# Altium footprint library Library Led Yazaki.PcbLib: 35 footprints (part 1 of 3)
Each footprint in its own frame and in the unit in brackets; x right, y up, seen from the top. Pads: shape width x height; smd on the part's side, far side on the other; paste and mask are expansions set on the pad; w line width, h text height; cw(c..) or ccw(c..) is an arc to the next point about the centre after c.
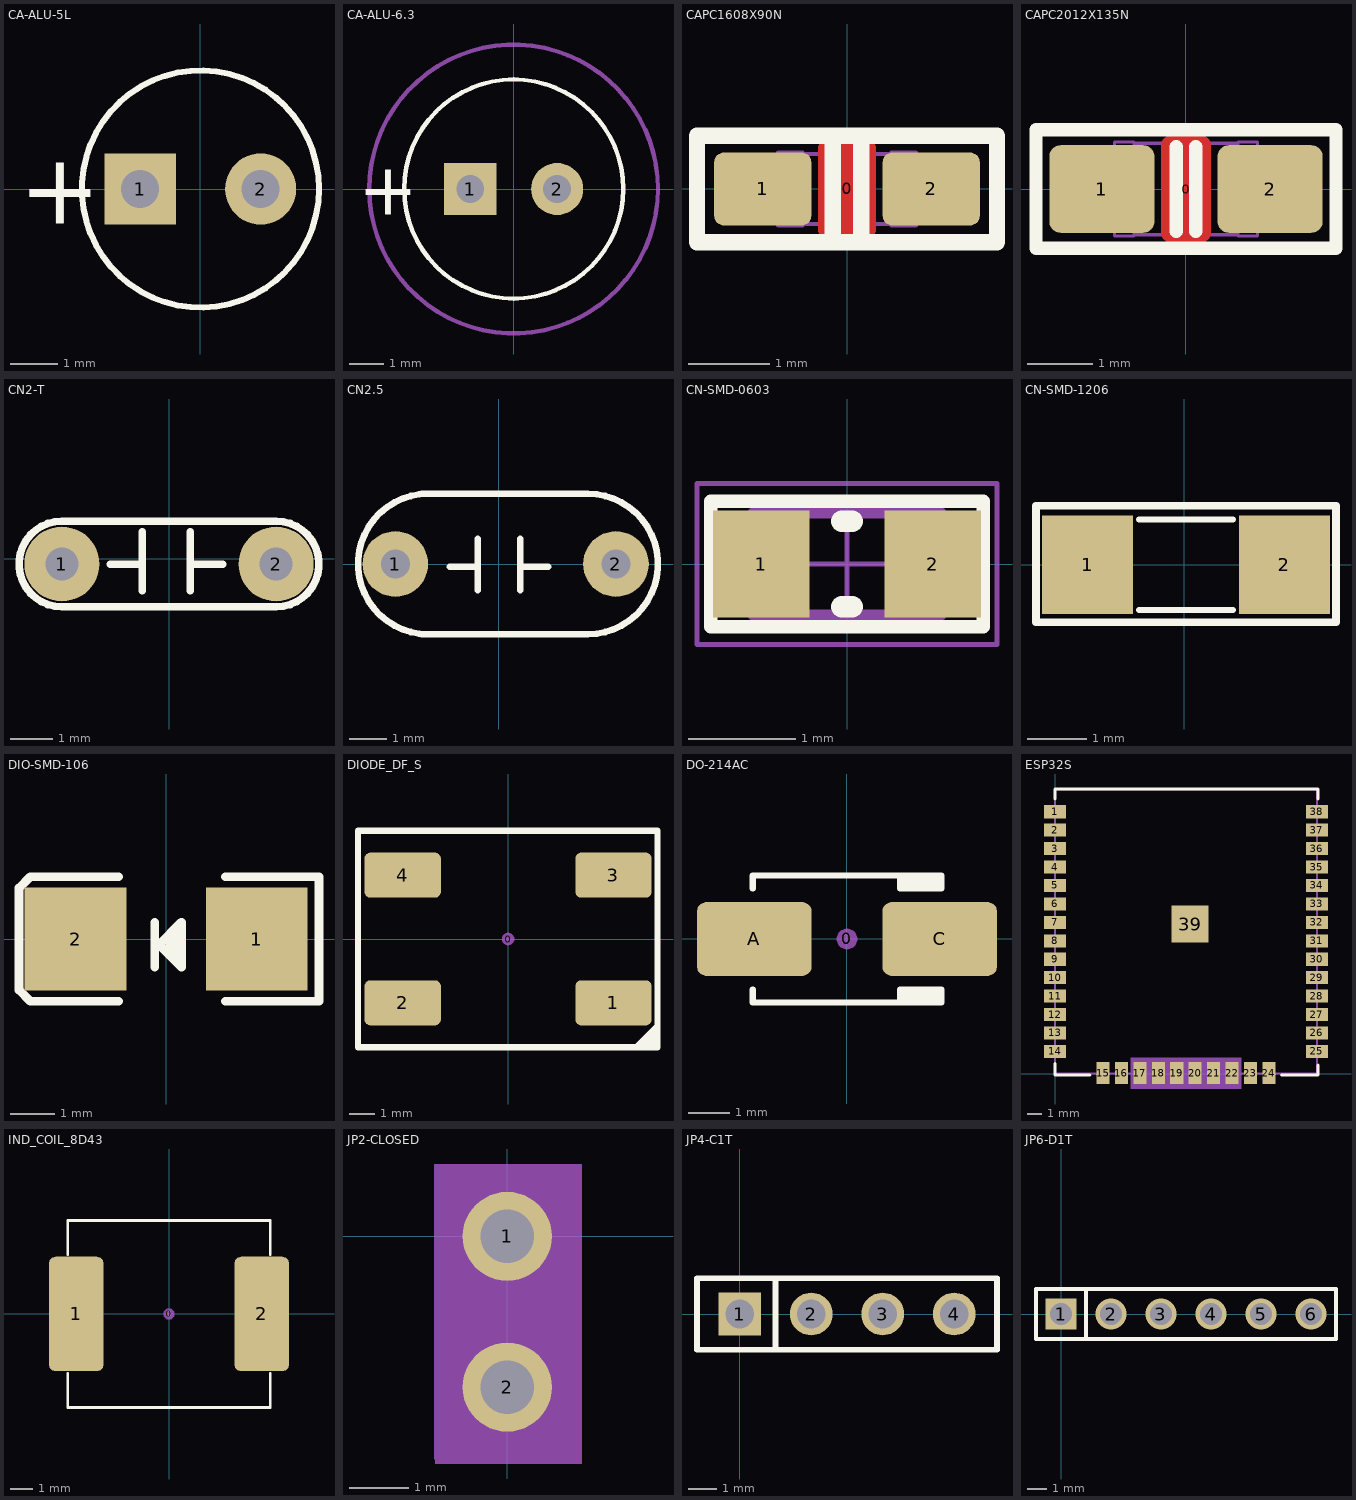
[diagram p0: the footprints below, top view; thin cyan lines are the x and y axes]

## CA-ALU-5L [mm] "Polarized capacitors, Aluminum Electrolytic Capacitors, 2-Leads, Body 5x11x2x0.5"
height 11
pads (2):
  rect 1.5x1.5 hole 0.8: 1(-1.27,0)
  round 1.5 hole 0.8: 2(1.27,0)
Top Overlay:
  circle w0.127: c0,0 r2.5
  text "+" at -3.825,-0.737 h1.5
3D body "5x12.step": height 13.9, standoff -1.2, extent -2.54,-2.54 2.54,2.54

## CA-ALU-6.3 [mm] "Polarized capacitors, Aluminum Electrolytic Capacitors, 2-Leads, Body 6.3x15x2.5x0.5"
height 15
pads (2):
  rect 1.5x1.5 hole 0.8: 1(-1.25,0)
  round 1.5 hole 0.8: 2(1.25,0)
Top Overlay:
  circle w0.127: c0,0 r3.15
  text "+" at -4.475,-0.737 h1.5
Mechanical 15:
  circle w0.127: c0,0 r4.15
3D body "User Library-Cap 6_3x11.STEP": height 11, standoff -19, extent -3.125,-3.15 3.175,3.15

## CAPC1608X90N [mm]
height 8.5
pads (3):
  round 0.254 on Mech15: 0(0,0)
  rrect25% 1.2x0.9 smd: 1(-1.041,0) 2(1.041,0)
Top Layer:
  pour cut-out: -0.356,0.508 -0.356,0.523 -0.344,0.551 -0.323,0.573 -0.295,0.584 -0.279,0.584 0.279,0.584 0.295,0.584 0.323,0.573 0.344,0.551 0.356,0.523 0.356,0.508 0.356,-0.508 0.356,-0.523 0.344,-0.551 0.323,-0.573 0.295,-0.584 0.279,-0.584 -0.279,-0.584 -0.295,-0.584 -0.323,-0.573 -0.344,-0.551 -0.356,-0.523 -0.356,-0.508
Top Overlay:
  lines w0.203: -0.178,-0.66 -0.178,0.66 ; 0.178,-0.66 0.178,0.66 ; -1.854,-0.66 -1.854,0.66 1.854,0.66 1.854,-0.66 -1.854,-0.66
Mechanical 3:
  lines w0.05: -0.55,-0.43 0.55,-0.43 ; -0.55,0.43 0.55,0.43 ; -0.85,-0.45 -0.85,0.45 -0.55,0.45 -0.55,-0.45 -0.85,-0.45 ; 0.55,-0.45 0.85,-0.45 0.85,0.45 0.55,0.45 0.55,-0.45
3D body "User Library-CapCeramic_Kemet_0603_1608.STEP": height 0.79, standoff -0.01, extent -0.8,-0.4 0.8,0.4

## CAPC2012X135N [mm]
height 8.5
pads (3):
  round 0.254 on Mech15: 0(0,0)
  rrect25% 1.62x1.35 smd: 1(-1.295,0) 2(1.295,0)
Top Layer:
  pour cut-out: -0.381,0.686 -0.381,0.711 -0.362,0.758 -0.326,0.793 -0.279,0.813 -0.254,0.813 0.254,0.813 0.279,0.813 0.326,0.793 0.362,0.758 0.381,0.711 0.381,0.686 0.381,-0.686 0.381,-0.711 0.362,-0.758 0.326,-0.793 0.279,-0.813 0.254,-0.813 -0.254,-0.813 -0.279,-0.813 -0.326,-0.793 -0.362,-0.758 -0.381,-0.711 -0.381,-0.686
Top Overlay:
  lines w0.203: -0.15,-0.651 -0.15,0.651 ; 0.15,-0.651 0.15,0.651 ; -2.311,-0.914 -2.311,0.914 2.311,0.914 2.311,-0.914 -2.311,-0.914
Mechanical 3:
  lines w0.05: -0.8,-0.705 0.8,-0.705 ; -0.8,0.705 0.8,0.705 ; -1.1,-0.725 -1.1,0.725 -0.8,0.725 -0.8,-0.725 -1.1,-0.725 ; 0.8,-0.725 0.8,0.725 1.1,0.725 1.1,-0.725 0.8,-0.725
3D body "User Library-CapCeramic_Kemet_0805_2012.STEP": height 0.89, standoff -0.01, extent -1,-0.625 1,0.625

## CN2-T [mil]
height 200
pads (2):
  round 70 hole 31: 1(-100,-5) 2(100,-5)
Top Overlay:
  lines w7: -55,-5 -25,-5 ; -25,-30 -25,25 ; 20,-30 20,25 ; 20,-5 50,-5 ; -100,-45 cw(c-100,-5) -100,35 100,35 cw(c100,-5) 100,-45 -100,-45
3D body "User Library-Disc_CAP d6x3_5_5mm.step": height 318.88, standoff -79.53, extent -118.11,-47.68 118.11,35

## CN2.5 [mil] "Tu pin to pin 250mil"
height 200
pads (2):
  round 70 hole 31: 1(-110,0) 2(125,0)
Top Overlay:
  lines w7: -82,-75 95,-75 ; -82,75 95,75 ; -75,-74.8 cw(c-75,0) -75,74.8 ; -52,-3 -22,-3 ; -22,-28 -22,27 ; 23,-28 23,27 ; 23,-3 53,-3 ; 95,-74.8 ccw(c95,0) 95,74.8
3D body "User Library-Film Capacitor 6x8mm.step": height 538.88, standoff -130.41, extent -152.48,-80 162.48,77.48

## CN-SMD-0603 [mm]
height 8.5
pads (2):
  rect 0.9x1 smd: 1(-0.8,0) 2(0.8,0)
Top Overlay:
  lines w0.127: -1.27,-0.584 -1.27,0.584 1.27,0.584 1.27,-0.584 -1.27,-0.584
  lines w0.2: -0.05,-0.4 0.05,-0.4 ; -0.05,0.4 0.05,0.4
Mechanical 13:
  lines w0.1: -0.875,-0.475 -0.875,0.475 0.875,0.475 0.875,-0.475 -0.875,-0.475
Mechanical 15:
  lines w0.05: -0.475,0 0.475,0 ; 0,-0.475 0,0.475 ; -1.397,-0.75 -1.397,0.75 1.397,0.75 1.397,-0.75 -1.397,-0.75
3D body "User Library-0603 SMD Capacitor.step": height 0.3, standoff 0, extent -0.8,-0.4 0.8,0.4

## CN-SMD-1206 [mil]
height 334.65
pads (2):
  rect 60x65 smd: 1(-64,0) 2(66,0)
Top Overlay:
  lines w4: -30,-30 32,-30 ; -30,30 32,30
  lines w5: -98,-38 100,-38 100,39 -98,39 -98,-38
3D body "1206 SMD Capacitor.step": height 40.05, standoff 0.6, extent -62.98,-31.49 63,31.51

## DIO-SMD-106 [mil]
height 334.65
pads (2):
  rect 90x90.55 smd: 1(80,0) 2(-80,0)
Top Overlay:
  lines w7.87: -42.24,-55 -120,-55 -130,-45 -130,45 -120,55 -42.24,55 ; -10.12,-24.68 -10.12,14.69 ; 3.66,-10.91 3.66,0.91 ; 9.57,-16.81 9.57,6.81 ; 52.24,-55 135,-55 135,55 52.24,55 ; -6.18,-5 13.5,-24.68 13.5,14.69 -6.18,-5
Mechanical 1:
  lines w3.94: -2.87,0 12.87,0 ; 5,-7.87 5,7.87
3D body "User Library-DO-214Aa SMA.step": height 94.69, standoff 0, extent -98.7,-50.27 106.03,52.09

## DIODE_DF_S [mm]
height 8.5
pads (5):
  round 0.508 on Mech15: 0(0,0)
  rrect25% 3.048x1.8 smd: 1(4.209,-2.55) 2(-4.209,-2.55) 3(4.209,2.55) 4(-4.209,2.55)
Top Overlay:
  region: 5.986,-4.31 5.986,-3.31 4.986,-4.31
  lines w0.254: -5.994,-4.318 5.969,-4.318 5.969,4.318 -5.994,4.318 -5.994,-4.318
3D body "User Library-DF02S.STEP": height 2.71, standoff 0, extent -4.7,-4.065 4.7,4.065

## DO-214AC [mil]
height 334.65
pads (3):
  round 20 on Mech15: 0(0,0)
  rrect25% 110x70.87 smd mask+0: A(-89,0)
  rrect25% 110x70.87 smd mask-2: C(89,0)
Top Overlay:
  rectangle: 51.18,48.43 90.55,61
  rectangle: 51.18,-61 90.55,-48.43
  lines w6: -90.55,-48.43 -90.55,-61 90.55,-61 90.55,-48.43 51.18,-48.43 51.18,-61 ; -90.55,48.43 -90.55,61 90.55,61 90.55,48.43 51.18,48.43 ; 51.18,48.87 51.18,61
3D body "User Library-DIOM5528X26.STEP": height 102.36, standoff 1.02, extent -108.26,-55.11 108.27,55.12

## ESP32S [mm]
height 8.5
pads (39):
  rect 1.5x0.9 smd: 1(0,18.034) 2(0,16.764) 3(0,15.494) 4(0,14.224) 5(0,12.954) 6(0,11.684) 7(0,10.414) 8(0,9.144) 9(0,7.874) 10(0,6.604) 11(0,5.334) 12(0,4.064) 13(0,2.794) 14(0,1.524) 25(18.034,1.524) 26(18.034,2.794) 27(18.034,4.064) 28(18.034,5.334) 29(18.034,6.604) 30(18.034,7.874) 31(18.034,9.144) 32(18.034,10.414) 33(18.034,11.684) 34(18.034,12.954) 35(18.034,14.224) 36(18.034,15.494) 37(18.034,16.764) 38(18.034,18.034)
  rect 0.9x1.5 smd: 15(3.3,0.034) 16(4.57,0.034) 17(5.84,0.034) 18(7.11,0.034) 19(8.38,0.034) 20(9.65,0.034) 21(10.92,0.034) 22(12.19,0.034) 23(13.46,0.034) 24(14.73,0.034)
  rect 2.54x2.54 smd: 39(9.3,10.3)
Top Overlay:
  lines w0.2: 0,0.7 0,-0.1 2.4,-0.1 ; 0,18.9 0,19.6 18.1,19.6 18.1,18.9 ; 15.6,-0.1 18.1,-0.1 18.1,0.6
Mechanical 3:
  rectangle: 5.207,-1.066 12.827,1.118
  lines w0.127: 0,19.558 18.034,19.558 ; 0,19.569 0,0 18.034,0 18.034,19.583
3D body "ESp32-WROOM-32U v3.step": height 3.4, standoff -0.04, extent 0.117,0.062 18.187,19.302

## IND_COIL_8D43 [mm]
height 8.5
pads (3):
  round 0.5 on Mech3: 0(0,0)
  rrect25% 2.4x5 smd mask-0.102: 1(-4.05,0) 2(4.05,0)
Top Overlay:
  lines w0.127: -4.42,-2.591 -4.42,-4.077 4.42,-4.077 4.42,-2.591 ; -4.42,2.591 -4.42,4.077 4.42,4.077 4.42,2.591
3D body "User Library-drumCoreInductorSMT.STEP": height 4.63, standoff 0.13, extent -4.343,-4 4.343,4

## JP2-CLOSED [mm]
height 2.032
pads (2):
  round 1.5 hole 0.9: 1(0,0) 2(0,-2.54)
Mechanical 2:
  rectangle: -1.219,-3.835 1.257,1.219
Mechanical 3:
  rectangle: -1.232,-3.759 1.232,1.219
3D body: height 7.62, standoff -3.05, extent -0.381,-2.927 0.381,-2.165
3D body: height 7.62, standoff -3.05, extent -0.381,-0.387 0.381,0.375
3D body: height 2.54, standoff 0, extent -1.27,-3.821 1.27,1.27
3D body: height 5.59, standoff 2.54, extent -1.219,-3.861 1.219,1.219
3D body: height 6.35, standoff 5.59, extent -1.041,-3.658 1.016,1.003
3D body: height 7.11, standoff 6.35, extent -1.219,-3.861 1.219,1.219

## JP4-C1T [mm] "4 row, straight, gold plating"
height 8.5
pads (4):
  rect 1.52x1.52 hole 1.02: 1(0,0)
  round 1.52 hole 1.02: 2(2.54,0) 3(5.08,0) 4(7.62,0)
Top Overlay:
  lines w0.2: 1.27,-1.27 1.27,1.27 ; -1.52,-1.27 9.14,-1.27 9.14,1.27 -1.52,1.27 -1.52,-1.27
3D body "61300411821.stp": height 8.51, standoff -3.09, extent -1.52,-1.25 9.14,1.25

## JP6-D1T [mm] "6 pins, 1 row, straight, gold plating"
height 8.54
pads (6):
  rect 1.6x1.6 hole 1.1: 1(0,0)
  round 1.6 hole 1.1: 2(2.54,0) 3(5.08,0) 4(7.62,0) 5(10.16,0) 6(12.7,0)
Top Overlay:
  lines w0.2: 1.27,-1.27 1.27,1.27 ; -1.27,-1.27 -1.27,1.27 13.97,1.27 13.97,-1.27 -1.27,-1.27
3D body "61300611121.stp": height 8.54, standoff -3, extent -1.27,-1.27 13.97,1.27